# EAGLE library part CPCI_AB19- (library con-cpci)
Compact PCI AB 19 Source: www.erni.com
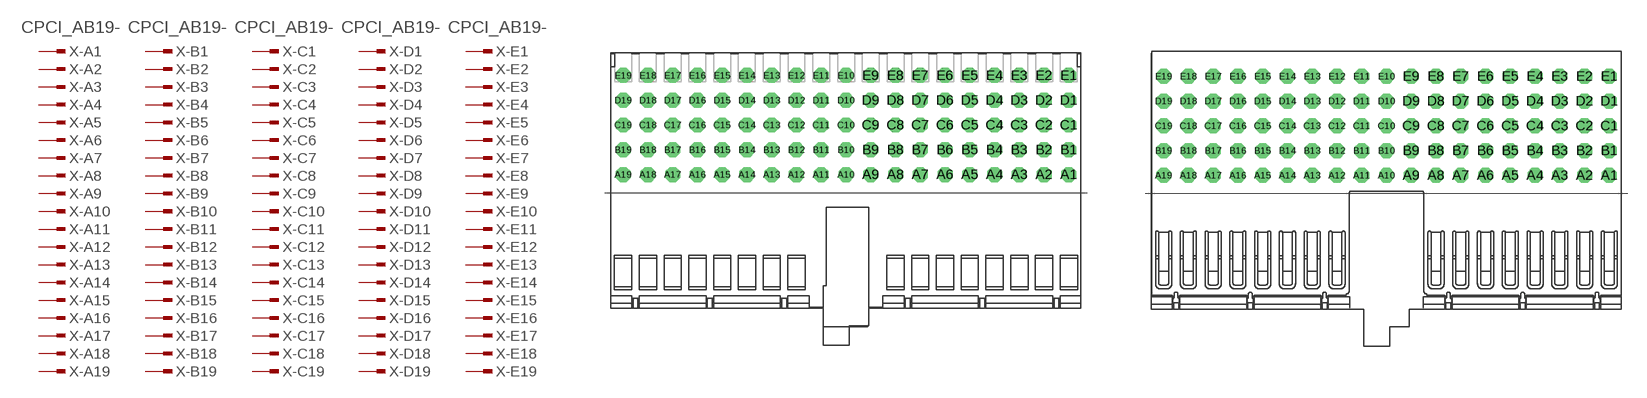
[diagram p7: symbol with the pads of 114529; footprints 114529, 134075]

Designator prefix X; gates -A1=PINV -B1=PINV -C1=PINV -D1=PINV -E1=PINV -A2=PIN -A3=PIN -A4=PIN -A5=PIN -A6=PIN -A7=PIN -A8=PIN -A9=PIN -A10=PIN -A11=PIN -A12=PIN -A13=PIN -A14=PIN -A15=PIN -A16=PIN -A17=PIN -A18=PIN -A19=PIN -B2=PIN -B3=PIN -B4=PIN -B5=PIN -B6=PIN -B7=PIN -B8=PIN -B9=PIN -B10=PIN -B11=PIN -B12=PIN -B13=PIN -B14=PIN -B15=PIN -B16=PIN -B17=PIN -B18=PIN -B19=PIN -C2=PIN -C3=PIN -C4=PIN -C5=PIN -C6=PIN -C7=PIN -C8=PIN -C9=PIN -C10=PIN -C11=PIN -C12=PIN -C13=PIN -C14=PIN -C15=PIN -C16=PIN -C17=PIN -C18=PIN -C19=PIN -D2=PIN -D3=PIN -D4=PIN -D5=PIN -D6=PIN -D7=PIN -D8=PIN -D9=PIN -D10=PIN -D11=PIN -D12=PIN -D13=PIN -D14=PIN -D15=PIN -D16=PIN -D17=PIN -D18=PIN -D19=PIN -E2=PIN -E3=PIN -E4=PIN -E5=PIN -E6=PIN -E7=PIN -E8=PIN -E9=PIN -E10=PIN -E11=PIN -E12=PIN -E13=PIN -E14=PIN -E15=PIN -E16=PIN -E17=PIN -E18=PIN -E19=PIN

## CPCI_AB19-114529  [114529]
A1  -A1:1  in
A2  -A2:1  in
A3  -A3:1  in
A4  -A4:1  in
A5  -A5:1  in
A6  -A6:1  in
A7  -A7:1  in
A8  -A8:1  in
A9  -A9:1  in
A10  -A10:1  in
A11  -A11:1  in
A12  -A12:1  in
A13  -A13:1  in
A14  -A14:1  in
A15  -A15:1  in
A16  -A16:1  in
A17  -A17:1  in
A18  -A18:1  in
A19  -A19:1  in
B1  -B1:1  in
B2  -B2:1  in
B3  -B3:1  in
B4  -B4:1  in
B5  -B5:1  in
B6  -B6:1  in
B7  -B7:1  in
B8  -B8:1  in
B9  -B9:1  in
B10  -B10:1  in
B11  -B11:1  in
B12  -B12:1  in
B13  -B13:1  in
B14  -B14:1  in
B15  -B15:1  in
B16  -B16:1  in
B17  -B17:1  in
B18  -B18:1  in
B19  -B19:1  in
C1  -C1:1  in
C2  -C2:1  in
C3  -C3:1  in
C4  -C4:1  in
C5  -C5:1  in
C6  -C6:1  in
C7  -C7:1  in
C8  -C8:1  in
C9  -C9:1  in
C10  -C10:1  in
C11  -C11:1  in
C12  -C12:1  in
C13  -C13:1  in
C14  -C14:1  in
C15  -C15:1  in
C16  -C16:1  in
C17  -C17:1  in
C18  -C18:1  in
C19  -C19:1  in
D1  -D1:1  in
D2  -D2:1  in
D3  -D3:1  in
D4  -D4:1  in
D5  -D5:1  in
D6  -D6:1  in
D7  -D7:1  in
D8  -D8:1  in
D9  -D9:1  in
D10  -D10:1  in
D11  -D11:1  in
D12  -D12:1  in
D13  -D13:1  in
D14  -D14:1  in
D15  -D15:1  in
D16  -D16:1  in
D17  -D17:1  in
D18  -D18:1  in
D19  -D19:1  in
E1  -E1:1  in
E2  -E2:1  in
E3  -E3:1  in
E4  -E4:1  in
E5  -E5:1  in
E6  -E6:1  in
E7  -E7:1  in
E8  -E8:1  in
E9  -E9:1  in
E10  -E10:1  in
E11  -E11:1  in
E12  -E12:1  in
E13  -E13:1  in
E14  -E14:1  in
E15  -E15:1  in
E16  -E16:1  in
E17  -E17:1  in
E18  -E18:1  in
E19  -E19:1  in

## CPCI_AB19-134075  [134075]
Pads as for 114529

## Footprint 114529 (pad centres in mm)
ERmet Federleiste AB 19 / ERmet Female Type AB 19 Source: http://www.erni.com/DB/PDF-Drawing/ERmet/114529.pdf
drill 0.7 pad 1.016 octagon: A1 18,1.5; A2 16,1.5; A3 14,1.5; A4 12,1.5; A5 10,1.5; A6 8,1.5; A7 6,1.5; A8 4,1.5; A9 2,1.5; A10 0,1.5; A11 -2,1.5; A12 -4,1.5; A13 -6,1.5; A14 -8,1.5; A15 -10,1.5; A16 -12,1.5; A17 -14,1.5; A18 -16,1.5; A19 -18,1.5; B1 18,3.5; B2 16,3.5; B3 14,3.5; B4 12,3.5; B5 10,3.5; B6 8,3.5; B7 6,3.5; B8 4,3.5; B9 2,3.5; B10 0,3.5; B11 -2,3.5; B12 -4,3.5; B13 -6,3.5; B14 -8,3.5; B15 -10,3.5; B16 -12,3.5; B17 -14,3.5; B18 -16,3.5; B19 -18,3.5; C1 18,5.5; C2 16,5.5; C3 14,5.5; C4 12,5.5; C5 10,5.5; C6 8,5.5; C7 6,5.5; C8 4,5.5; C9 2,5.5; C10 0,5.5; C11 -2,5.5; C12 -4,5.5; C13 -6,5.5; C14 -8,5.5; C15 -10,5.5; C16 -12,5.5; C17 -14,5.5; C18 -16,5.5; C19 -18,5.5; D1 18,7.5; D2 16,7.5; D3 14,7.5; D4 12,7.5; D5 10,7.5; D6 8,7.5; D7 6,7.5; D8 4,7.5; D9 2,7.5; D10 0,7.5; D11 -2,7.5; D12 -4,7.5; D13 -6,7.5; D14 -8,7.5; D15 -10,7.5; D16 -12,7.5; D17 -14,7.5; D18 -16,7.5; D19 -18,7.5; E1 18,9.5; E2 16,9.5; E3 14,9.5; E4 12,9.5; E5 10,9.5; E6 8,9.5; E7 6,9.5; E8 4,9.5; E9 2,9.5; E10 0,9.5; E11 -2,9.5; E12 -4,9.5; E13 -6,9.5; E14 -8,9.5; E15 -10,9.5; E16 -12,9.5; E17 -14,9.5; E18 -16,9.5; E19 -18,9.5

## Footprint 134075 (pad centres in mm)
ERmet Federleiste AB 19 / ERmet Female Type AB 19 Source: http://www.erni.com/DB/PDF-Drawing/ERmet/134075.pdf
drill 0.7 pad 1.016 octagon: A1 77,56.5; A2 75,56.5; A3 73,56.5; A4 71,56.5; A5 69,56.5; A6 67,56.5; A7 65,56.5; A8 63,56.5; A9 61,56.5; A10 59,56.5; A11 57,56.5; A12 55,56.5; A13 53,56.5; A14 51,56.5; A15 49,56.5; A16 47,56.5; A17 45,56.5; A18 43,56.5; A19 41,56.5; B1 77,58.5; B2 75,58.5; B3 73,58.5; B4 71,58.5; B5 69,58.5; B6 67,58.5; B7 65,58.5; B8 63,58.5; B9 61,58.5; B10 59,58.5; B11 57,58.5; B12 55,58.5; B13 53,58.5; B14 51,58.5; B15 49,58.5; B16 47,58.5; B17 45,58.5; B18 43,58.5; B19 41,58.5; C1 77,60.5; C2 75,60.5; C3 73,60.5; C4 71,60.5; C5 69,60.5; C6 67,60.5; C7 65,60.5; C8 63,60.5; C9 61,60.5; C10 59,60.5; C11 57,60.5; C12 55,60.5; C13 53,60.5; C14 51,60.5; C15 49,60.5; C16 47,60.5; C17 45,60.5; C18 43,60.5; C19 41,60.5; D1 77,62.5; D2 75,62.5; D3 73,62.5; D4 71,62.5; D5 69,62.5; D6 67,62.5; D7 65,62.5; D8 63,62.5; D9 61,62.5; D10 59,62.5; D11 57,62.5; D12 55,62.5; D13 53,62.5; D14 51,62.5; D15 49,62.5; D16 47,62.5; D17 45,62.5; D18 43,62.5; D19 41,62.5; E1 77,64.5; E2 75,64.5; E3 73,64.5; E4 71,64.5; E5 69,64.5; E6 67,64.5; E7 65,64.5; E8 63,64.5; E9 61,64.5; E10 59,64.5; E11 57,64.5; E12 55,64.5; E13 53,64.5; E14 51,64.5; E15 49,64.5; E16 47,64.5; E17 45,64.5; E18 43,64.5; E19 41,64.5